# EAGLE library part BRICKHS1/8 (library Mine)
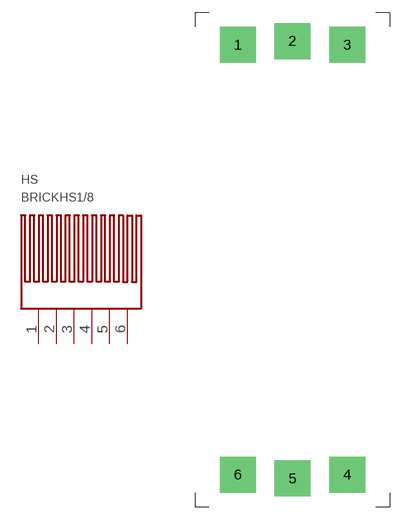
[diagram p14: symbol with the pads of 1/8HS; footprint 1/8HS]

Designator prefix HS

## BRICKHS1/8  [1/8HS]
1  P$1  nc
2  P$2  nc
3  P$3  nc
4  P$4  nc
5  P$5  nc
6  P$6  nc

## Footprint 1/8HS (pad centres in mm)
drill 3.2 pad 3.81 square: 1 -6.4,25.2; 2 0,25.65; 3 6.4,25.2; 4 6.4,-25.2; 5 0,-25.65; 6 -6.4,-25.2